# Altium footprint library LD09S13A4GX00LF.PcbLib: 1 footprints
Each footprint in its own frame and in the unit in brackets; x right, y up, seen from the top. Pads: shape width x height; smd on the part's side, far side on the other; paste and mask are expansions set on the pad; w line width, h text height; cw(c..) or ccw(c..) is an arc to the next point about the centre after c.
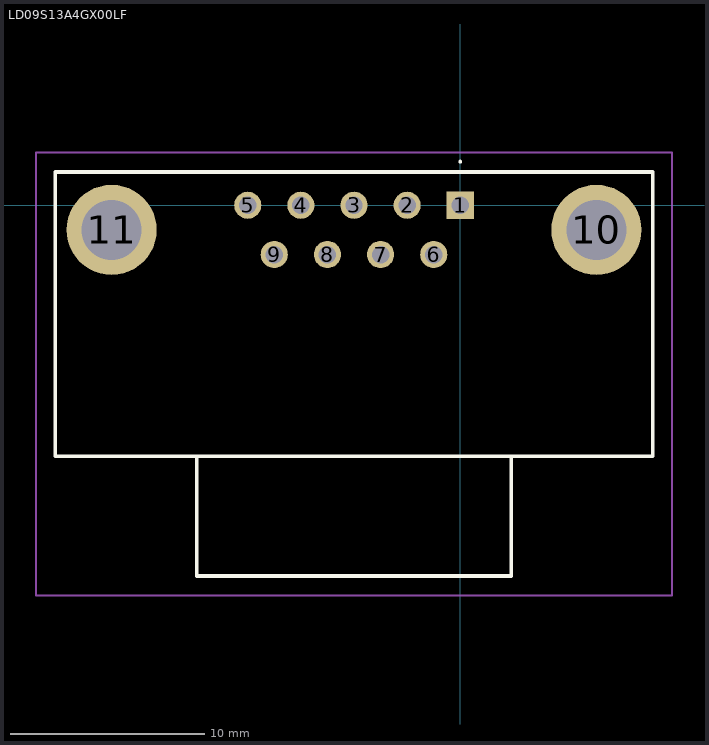
[diagram p0: the footprint, top view; thin cyan lines are the x and y axes]

## LD09S13A4GX00LF [mm]
pads (11):
  rect 1.4x1.4 hole 0.9: 1(0,0)
  round 1.4 hole 0.9: 2(-2.74,0) 3(-5.48,0) 4(-8.22,0) 5(-10.96,0) 6(-1.37,-2.54) 7(-4.11,-2.54) 8(-6.85,-2.54) 9(-9.59,-2.54)
  round 4.65 hole 3.1: 10(7.015,-1.27) 11(-17.975,-1.27)
Top Overlay:
  lines w0.1: 0,2.2 0,2.2 ; 0,2.2 ccw(c0,2.25) 0,2.3 ; 0,2.2 cw(c0,2.25) 0,2.3 ; 0,2.3 0,2.3
  lines w0.2: -13.585,-12.94 -13.585,-19.11 2.625,-19.11 2.625,-12.94 ; -20.885,-12.94 9.925,-12.94 9.925,1.71 -20.885,1.71 -20.885,-12.94
Mechanical 15:
  lines w0.1: -13.585,-12.94 -13.585,-19.11 2.625,-19.11 2.625,-12.94 ; -20.885,-12.94 9.925,-12.94 9.925,1.71 -20.885,1.71 -20.885,-12.94
Mechanical 20:
  lines w0.1: -21.885,-20.11 10.925,-20.11 10.925,2.71 -21.885,2.71 -21.885,-20.11